# EAGLE library part MCP2562-I/SN (library IGVC-Microcontroller)
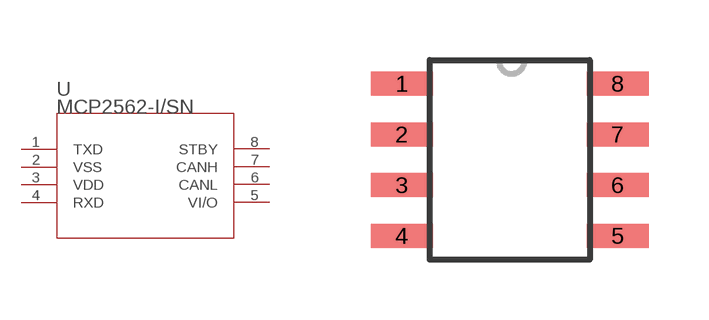
[diagram p1: symbol with the pads of SOIC8-N_MC; footprint SOIC8-N_MC]

Designator prefix U

## MCP2562-I/SN  [SOIC8-N_MC]
1  TXD  pas
2  VSS  pas
3  VDD  pas
4  RXD  pas
5  VI/O  pas
6  CANL  pas
7  CANH  pas
8  STBY  pas

## Footprint SOIC8-N_MC (pad centres in mm)
smd 1.55 x 0.6: 1 -0.75,-0.595; 2 -0.75,-1.865; 3 -0.75,-3.135; 4 -0.75,-4.405; 5 4.65,-4.405; 6 4.65,-3.135; 7 4.65,-1.865; 8 4.65,-0.595